# EAGLE library part ADM3053 (library balto)
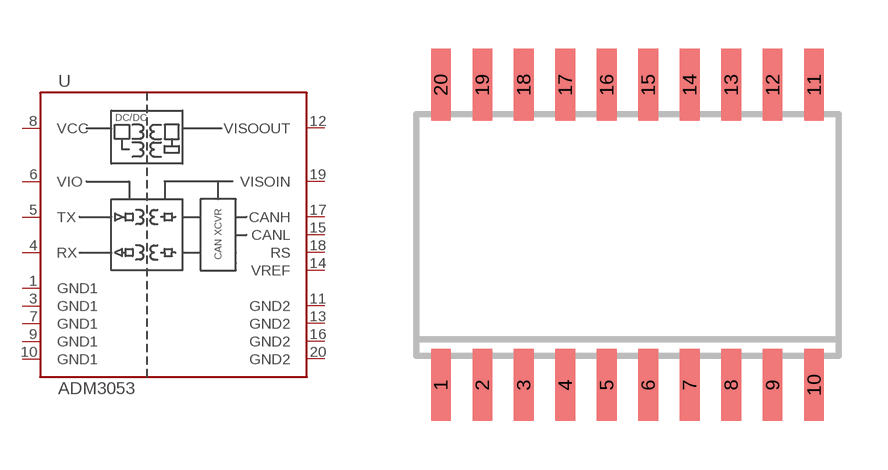
[diagram p13: symbol with the pads of SO20W; footprint SO20W]

Designator prefix U

## ADM3053  [SO20W]
1  GND1
2  NC
3  GND1
4  RX
5  TX
6  VIO
7  GND1
8  VCC
9  GND1
10  GND1
11  GND2
12  VISOOUT
13  GND2
14  VREF
15  CANL
16  GND2
17  CANH
18  RS
19  VISOIN
20  GND2

## Footprint SO20W (pad centres in mm)
SMALL OUTLINE INTEGRATED CIRCUIT wide body 7.5 mm/JEDEC MS-013AC
smd 0.6 x 2.2: 1 -5.715,-4.6; 2 -4.445,-4.6; 3 -3.175,-4.6; 4 -1.905,-4.6; 5 -0.635,-4.6; 6 0.635,-4.6; 7 1.905,-4.6; 8 3.175,-4.6; 9 4.445,-4.6; 10 5.715,-4.6; 11 5.715,4.6; 12 4.445,4.6; 13 3.175,4.6; 14 1.905,4.6; 15 0.635,4.6; 16 -0.635,4.6; 17 -1.905,4.6; 18 -3.175,4.6; 19 -4.445,4.6; 20 -5.715,4.6